# Altium schematic symbol library HR911130A.SchLib: 1 symbol
Pins are listed as number, name and electrical type; pins without a type are passive.

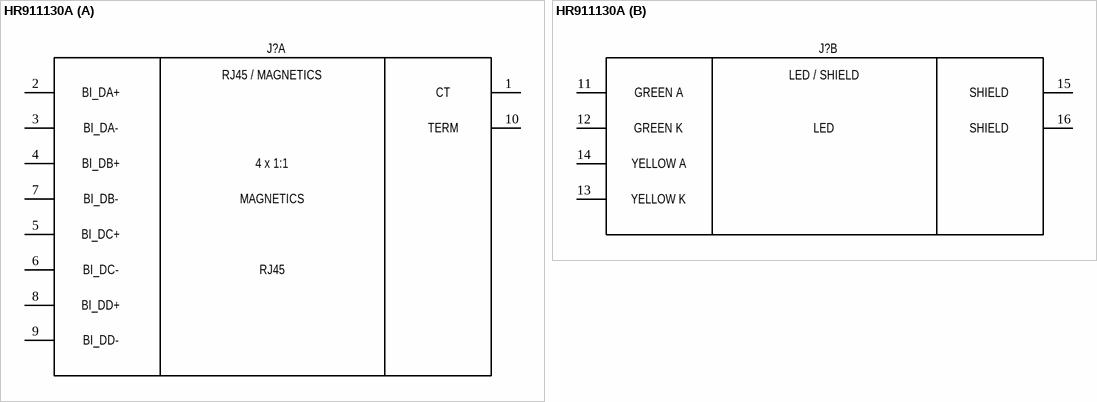
[diagram p0: symbol HR911130A]

## HR911130A
designator J?  (value not drawn)
SINGLE PORT RJ45 CONNECTOR WITH INTEGRATED MAGNETICS AND LED; Manufacturer_Name: Hanrun Electronics; Geometry.Height: 13mm; Manufacturer_Part_Number: HR911130A; Mouser Part Number: *; Mouser Price/Stock: *; Arrow Part Number: *; Arrow Price/Stock: *; Datasheet Link: https://datasheet.lcsc.com/szlcsc/Zhongshan-HanRun-Elec-HR911130A_C54408.pdf
footprint HR911130A
part A pins: 1 (power), 2 (power), 3 (power), 4 (power), 5 (power), 6 (power), 7 (power), 8 (power), 9 (power), 10 (power)
part B pins: 11 (power), 12 (power), 13 (power), 14 (power), 15 (power), 16 (power)
part A text: RJ45 / MAGNETICS; BI_DA+; CT; BI_DA-; TERM; BI_DB+; 4 x 1:1; BI_DB-; MAGNETICS; BI_DC+; BI_DC-; RJ45; BI_DD+; BI_DD-
part B text: LED / SHIELD; GREEN A; SHIELD; GREEN K; LED; YELLOW A; YELLOW K